# Altium schematic symbol library RC0402JR-0710KL.SchLib: 1 symbol
Pins are listed as number, name and electrical type; pins without a type are passive.

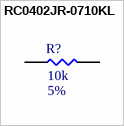
[diagram p0: symbol RC0402JR-0710KL]

## RC0402JR-0710KL
designator R?  Resistance: 10k  Tolerance: 5%  (hidden comment: RC0402JR-0710KL)
RES SMD 10K OHM 5% 1/16W 0402; PN: RC0402JR-0710KL; Footprint: RES0402; Package: 0402; MFR: RC0402JR-0710KL; ComponentLink1Description: Datasheet; ComponentLink1URL: https://www.yageo.com/upload/media/product/productsearch/datasheet/rchip/PYu-RC_Group_51_RoHS_L_11.pdf; Power Rating: 1/16W; Supplier 1: Digi-Key; Supplier Part Number 1: 311-10KJRCT-ND
footprint RES0402 (Generic 0402 PCB Footprint)
pins: 1, 2